# Altium footprint library ROV2019V2.0。0.PcbLib: 24 footprints (part 2 of 2)
Each footprint in its own frame and in the unit in brackets; x right, y up, seen from the top. Pads: shape width x height; smd on the part's side, far side on the other; paste and mask are expansions set on the pad; w line width, h text height; cw(c..) or ccw(c..) is an arc to the next point about the centre after c.
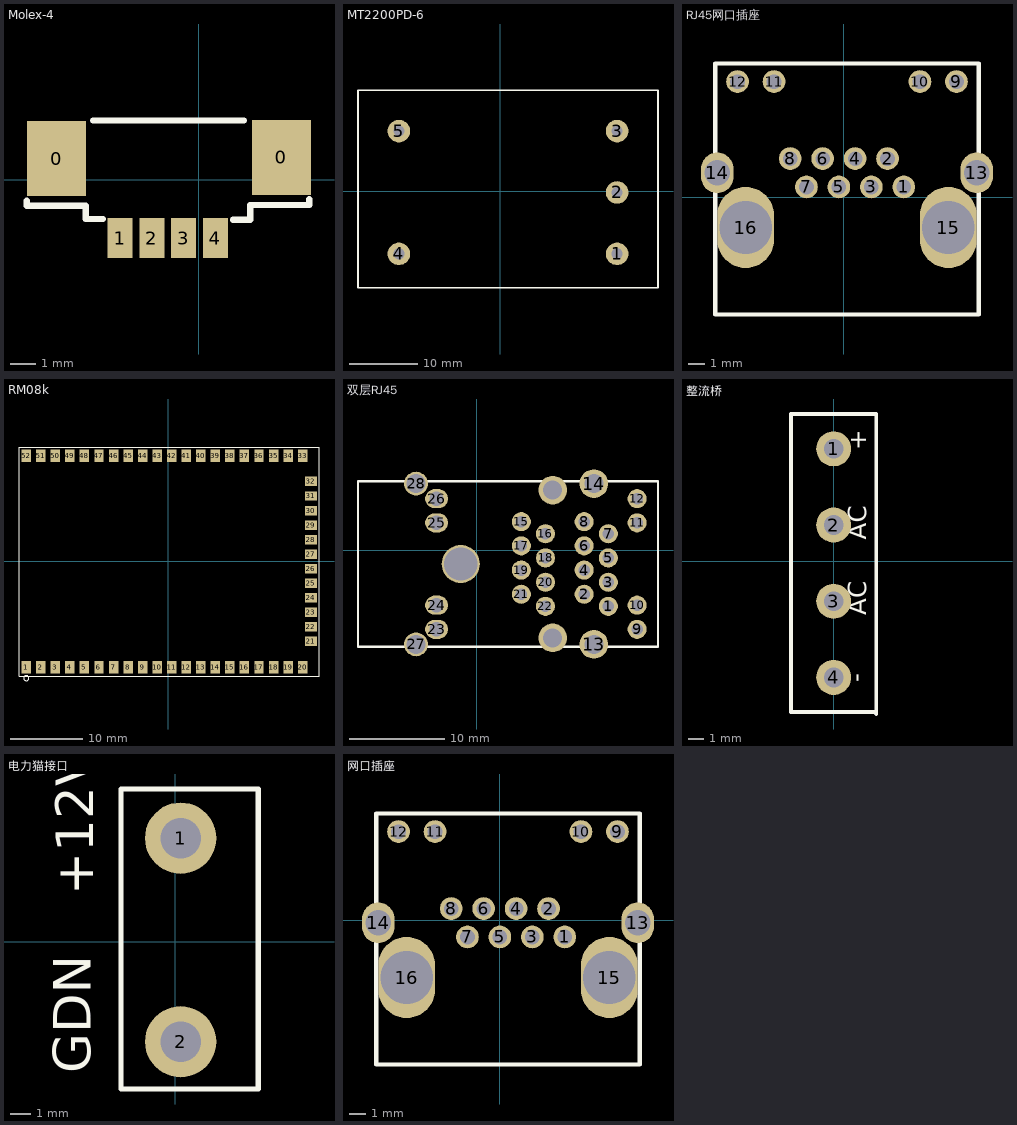
[diagram p1: the footprints below, top view; thin cyan lines are the x and y axes]

## Molex-4 [mm]
pads (6):
  rect 2.35x3 smd: 0(-5.687,0.852) 0(3.3,0.901)
  rect 1x1.6 smd: 1(-3.147,-2.323) 2(-1.877,-2.323) 3(-0.607,-2.323) 4(0.663,-2.323)
Top Overlay:
  lines w0.254: -6.881,-0.825 -6.881,-1.028 -4.519,-1.028 -4.519,-1.561 -3.833,-1.561 ; -4.214,2.376 1.799,2.376 ; 1.363,-1.583 2.049,-1.583 2.049,-0.999 4.411,-0.999 4.411,-0.77

## MT2200PD-6 [mil]
pads (5):
  round 130 hole 65: 1(674.92,-361.33) 2(674.92,-7) 3(674.92,347.33) 4(-584.92,-361.33) 5(-584.92,347.33)
Top Overlay:
  lines w10: -821.14,-557.39 -821.14,583.63 ; -820.75,583.55 911.04,583.55 911.14,583.45 911.14,-556.37 -820.12,-556.37

## RJ45网口插座 [mil]
pads (16):
  round 56 hole 36: 1(148,25) 2(108,95) 3(68,25) 4(28,95) 5(-12,25) 6(-52,95) 7(-92,25) 8(-132,95) 9(278,285) 10(188,285) 11(-172,285) 12(-262,285)
  oval 80x100 hole 63: 13(328,60) 14(-312,60)
  oval 140x200 hole 130: 15(258,-75) 16(-242,-75)
Top Overlay:
  lines w10: -317,-290 333,-290 333,330 -317,330 -317,-290

## RM08k [mm]
pads (52):
  rect 1.3x1.7 smd: 1(-19.513,-14.555) 2(-17.513,-14.555) 3(-15.513,-14.555) 4(-13.513,-14.555) 5(-11.513,-14.555) 6(-9.513,-14.555) 7(-7.513,-14.555) 8(-5.513,-14.555) 9(-3.513,-14.555) 10(-1.513,-14.555) 11(0.487,-14.555) 12(2.487,-14.555) 13(4.487,-14.555) 14(6.487,-14.555) 15(8.487,-14.555) 16(10.487,-14.555) 17(12.487,-14.555) 18(14.487,-14.555) 19(16.487,-14.555) 20(18.487,-14.555) 33(18.487,14.545) 34(16.487,14.545) 35(14.487,14.545) 36(12.487,14.545) 37(10.487,14.545) 38(8.487,14.545) 39(6.487,14.545) 40(4.487,14.545) 41(2.487,14.545) 42(0.487,14.545) 43(-1.513,14.545) 44(-3.513,14.545) 45(-5.513,14.545) 46(-7.513,14.545) 47(-9.513,14.545) 48(-11.513,14.545) 49(-13.513,14.545) 50(-15.513,14.545) 51(-17.513,14.545) 52(-19.513,14.545)
  rect 1.7x1.3 smd: 21(19.637,-11.005) 22(19.637,-9.005) 23(19.637,-7.005) 24(19.637,-5.005) 25(19.637,-3.005) 26(19.637,-1.005) 27(19.637,0.995) 28(19.637,2.995) 29(19.637,4.995) 30(19.637,6.995) 31(19.637,8.995) 32(19.637,10.995)
Top Overlay:
  circle w0.15: c-19.513,-16.055 r0.354
  lines w0.1: -20.513,-15.805 20.737,-15.805 20.737,15.695 -20.513,15.695 -20.513,-15.805

## 双层RJ45 [mm]
pads (31):
  round 2 hole 1.2: 1(13.834,-5.896) 2(11.294,-4.626) 3(13.834,-3.369) 4(11.294,-2.086) 5(13.834,-0.816) 6(11.294,0.454) 7(13.834,1.724) 8(11.294,2.994) 9(16.854,-8.311) 10(16.854,-5.771) 11(16.854,2.869) 12(16.854,5.409) 15(4.699,2.994) 16(7.234,1.724) 17(4.699,0.454) 18(7.239,-0.816) 19(4.699,-2.086) 20(7.239,-3.369) 21(4.699,-4.626) 22(7.234,-5.896)
  round 3 hole 2: 13(12.319,-9.891) 14(12.319,6.989) ""(7.994,-9.211) ""(7.994,6.309)
  oval 2.4x2 hole 1.5: 23(-4.196,-8.311) 24(-4.196,-5.771) 25(-4.196,2.869) 26(-4.196,5.409)
  round 2.5 hole 2: 27(-6.356,-9.891) 28(-6.356,6.989)
  round 4 hole 3.5: ""(-1.656,-1.451)
Top Overlay:
  lines w0.254: -12.446,7.22 -12.446,-10.16 19.034,-10.16 ; -12.446,7.239 19.034,7.239 ; 19.05,-10.16 19.05,7.22

## 整流桥 [mm]
pads (4):
  round 2.3 hole 1.3: 1(0,7.366) 2(0,2.366) 3(0,-2.634) 4(0,-7.634)
Top Overlay:
  lines w0.254: -2.794,-9.906 -2.794,9.652 2.794,9.652 2.794,-10.033 2.667,-9.906 -2.794,-9.906
  text "AC" at 2.54,-3.556 h2
  text "AC" at 2.54,1.397 h2
  text "+" at 2.54,7.284 h2
  text "-" at 2.413,-7.956 h2

## 电力猫接口 [mm]
pads (2):
  round 3.5 hole 2: 1(0.254,5.08) 2(0.254,-4.92)
Top Overlay:
  lines w0.254: -2.667,-7.239 -2.667,7.493 4.064,7.493 4.064,-7.239 -2.667,-7.239
  text "GDN" at -3.556,-6.477 h3.17
  text "+12V" at -3.429,2.286 h3.17

## 网口插座 [mil]
pads (16):
  round 56 hole 36: 1(160,-40.98) 2(120,29.02) 3(80,-40.98) 4(40,29.02) 5(0,-40.98) 6(-40,29.02) 7(-80,-40.98) 8(-120,29.02) 9(290,219.02) 10(200,219.02) 11(-160,219.02) 12(-250,219.02)
  oval 80x100 hole 63: 13(340,-5.98) 14(-300,-5.98)
  oval 140x200 hole 130: 15(270,-140.98) 16(-230,-140.98)
Top Overlay:
  lines w10: -305,-355.98 -305,264.02 345,264.02 345,-355.98 -305,-355.98